# Altium schematic symbol library NCP51460SN33T1G.SchLib: 1 symbol
Pins are listed as number, name and electrical type; pins without a type are passive.

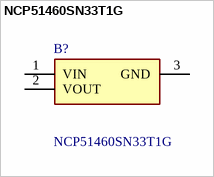
[diagram p0: symbol NCP51460SN33T1G]

## NCP51460SN33T1G
designator B?
Operating Input Voltage VIN 4.2 V to 28 V; Output Current Capability of 0 to 20 mA; Output Voltage Temperature Coefficient of 18 ppm/C; Output Voltage Accuracy 1 %, for 0 C TA 100 C ; High PSRR of 68 dB at 1 kHz; Stable Without Output Capacitor; Low Quiescent Current of 140 A; Low Output Noise of 18 VRMS; Output Voltage Option: 3.3V; Manufacturer_Name: onsemi; Geometry.Height: 1.11mm; Mouser Part Number: 863-NCP51460SN33T1G; Mouser Price/Stock: https://www.mouser.co.uk/ProductDetail/onsemi/NCP51460SN33T1G?qs=yYCK2ysgWqmLP%2FSKTB%252Bdng%3D%3D; Manufacturer_Part_Number: NCP51460SN33T1G; Datasheet Link: https://www.onsemi.com/pub/Collateral/NCP51460-D.PDF
footprint SOT96P237X111-3N
pins: 1 VIN, 2 VOUT, 3 GND